# Altium footprint library Capacitors.PcbLib: 25 footprints (part 2 of 2)
Each footprint in its own frame and in the unit in brackets; x right, y up, seen from the top. Pads: shape width x height; smd on the part's side, far side on the other; paste and mask are expansions set on the pad; w line width, h text height; cw(c..) or ccw(c..) is an arc to the next point about the centre after c.
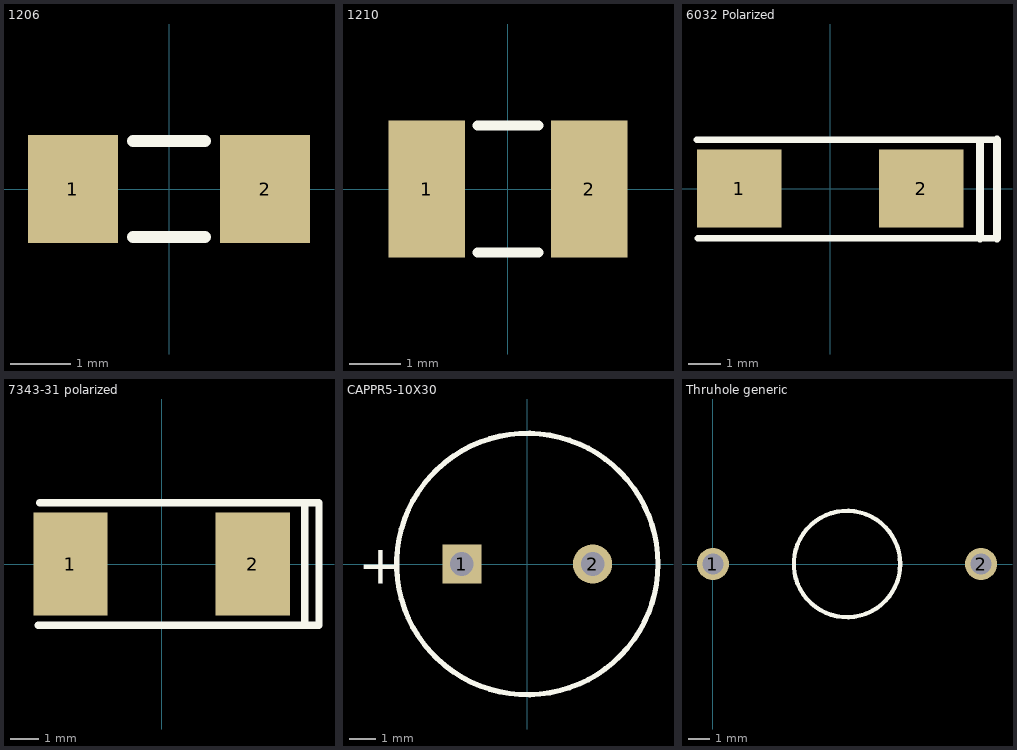
[diagram p1: the footprints below, top view; thin cyan lines are the x and y axes]

## 1206 [mm] "1206 SMT capacitor"
height 1.8
pads (2):
  rect 1.5x1.8 smd mask+0.064: 1(-1.6,0) 2(1.6,0)
Top Overlay:
  lines w0.2: -0.6,-0.8 0.6,-0.8 ; -0.6,0.8 0.6,0.8
3D body: height 1.59, standoff -0.01, extent -1.6,-0.8 1.6,0.8

## 1210 [mm] "1210 SMT capacitor"
height 2.7
pads (2):
  rect 1.5x2.7 smd mask+0.064: 1(-1.6,0) 2(1.6,0)
Top Overlay:
  lines w0.2: -0.6,-1.25 0.6,-1.25 ; -0.6,1.25 0.6,1.25
3D body: height 2.5, standoff 0, extent -1.6,-1.25 1.6,1.25

## 6032 Polarized [mm] "tantalum footprint, positive marked"
pads (2):
  rect 2.6x2.4 smd: 1(-2.8,0) 2(2.8,0)
Top Overlay:
  lines w0.2: -4.1,1.5 5.125,1.5 ; -4.075,-1.525 5.125,-1.525
  lines w0.254: 4.6,-1.525 4.6,1.425 ; 5.125,-1.525 5.125,1.5

## 7343-31 polarized [mm] "tantalum footprint, positive marked"
pads (2):
  rect 2.6x3.6 smd: 1(-3.2,0) 2(3.2,0)
Top Overlay:
  lines w0.254: -4.325,-2.15 5.525,-2.15 5.525,2.15 5.5,2.15 ; -4.275,2.15 5.5,2.15 ; 5.025,-2.1 5.025,2.125 ; 5.5,2.15 5.5,2.15

## CAPPR5-10X30 [mm]
pads (2):
  rect 1.5x1.5 hole 0.9: 1(-2.5,0)
  round 1.5 hole 0.9: 2(2.5,0)
Top Overlay:
  circle w0.2: c0,0 r5
  text "+" at -6.475,-0.75 h1.5

## PCBComponent_1 [mm]

## PCBComponent_1 - duplicate [mm]

## PCBComponent_1 - duplicate1 [mm]

## Thruhole generic [mm]
pads (2):
  round 1.5 hole 1: 1(0,0) 2(12.6,0)
Top Overlay:
  circle w0.2: c6.3,0 r2.5